# Altium footprint library con-vg.PCBLIB: 112 footprints (part 1 of 7)
Each footprint in its own frame and in the unit in brackets; x right, y up, seen from the top. Pads: shape width x height; smd on the part's side, far side on the other; paste and mask are expansions set on the pad; w line width, h text height; cw(c..) or ccw(c..) is an arc to the next point about the centre after c.
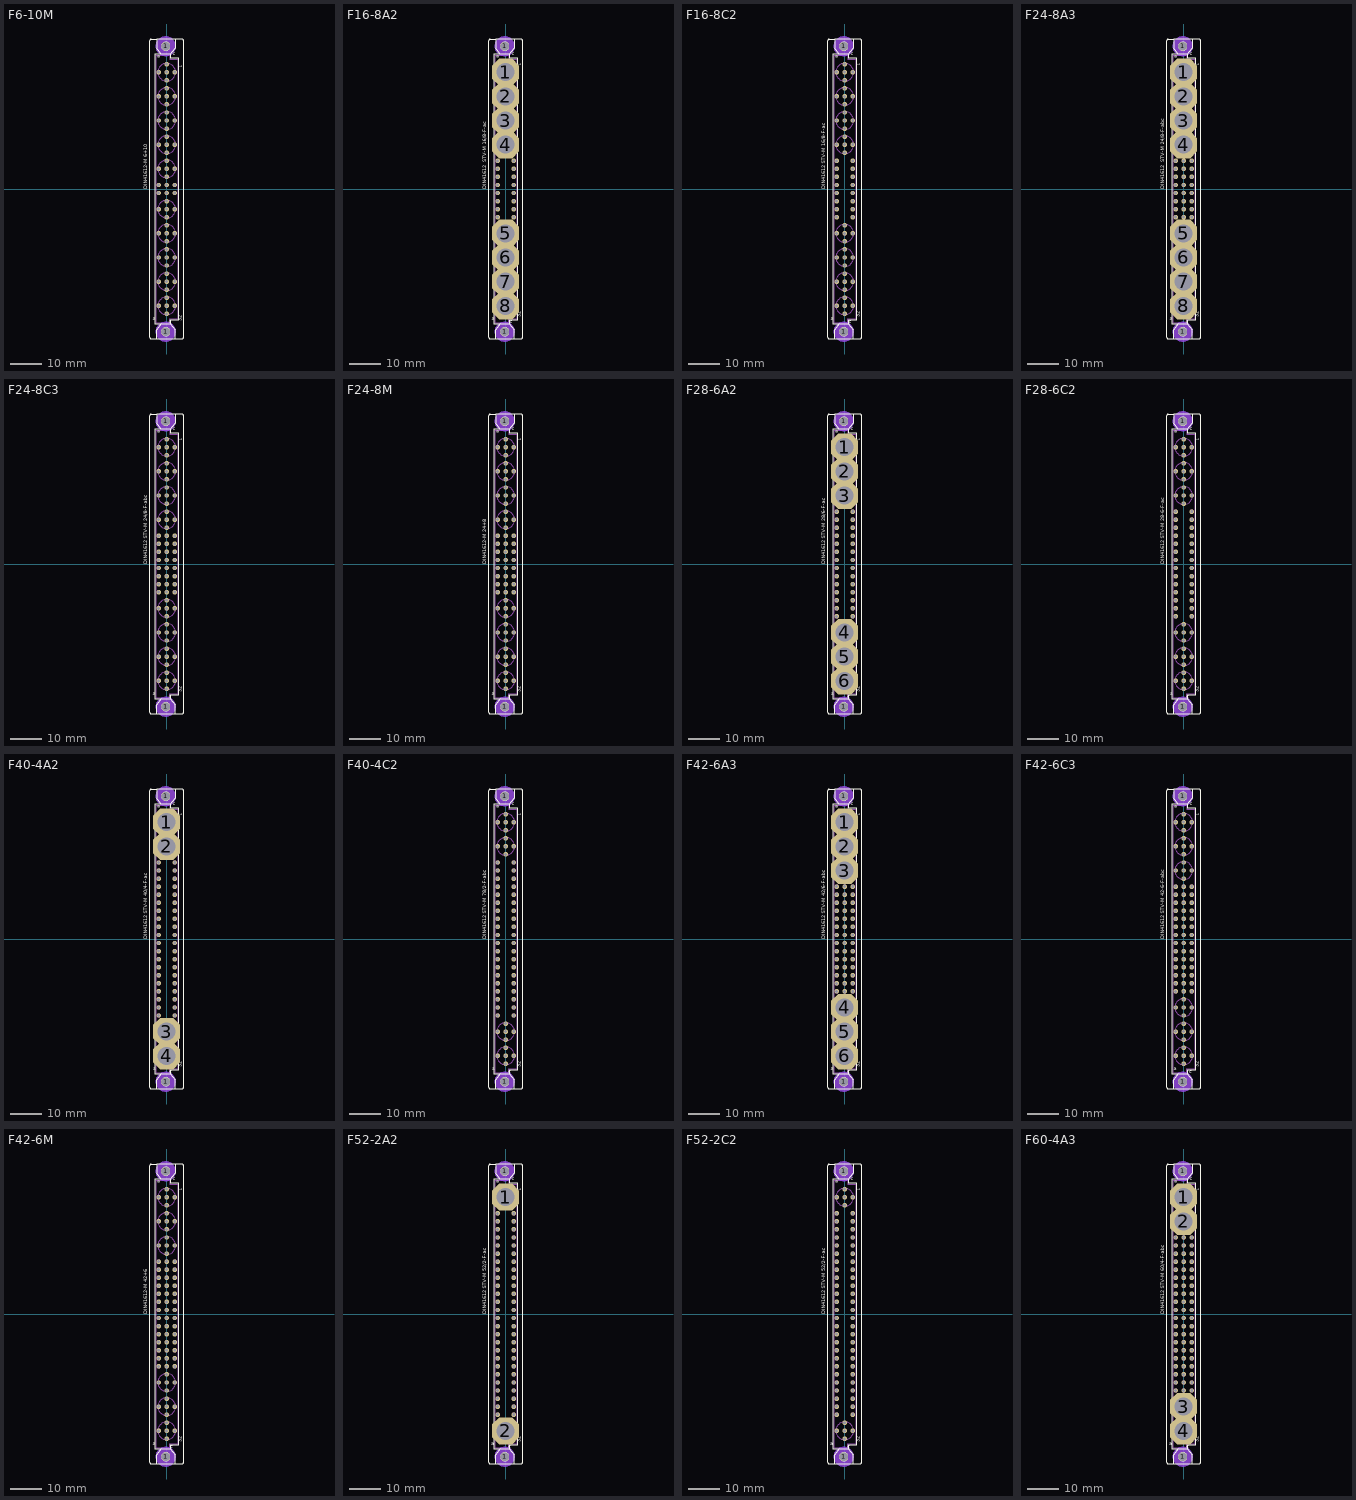
[diagram p0: the footprints below, top view; thin cyan lines are the x and y axes]

## F6-10M [mil]
pads (58):
  round 110 hole 110: 1(-12,-1772) 1(-12,1772)
  oct 54x54 hole 36: A2(-100,1450) A5(-100,1150) A8(-100,850) A11(-100,550) A14(-100,250) A16(-100,50) A17(-100,-50) A19(-100,-250) A22(-100,-550) A25(-100,-850) A28(-100,-1150) A31(-100,-1450) B1(0,1550) B2(0,1450) B3(0,1350) B4(0,1250) B5(0,1150) B6(0,1050) B7(0,950) B8(0,850) B9(0,750) B10(0,650) B11(0,550) B12(0,450) B13(0,350) B14(0,250) B15(0,150) B16(0,50) B17(0,-50) B18(0,-150) B19(0,-250) B20(0,-350) B21(0,-450) B22(0,-550) B23(0,-650) B24(0,-750) B25(0,-850) B26(0,-950) B27(0,-1050) B28(0,-1150) B29(0,-1250) B30(0,-1350) B31(0,-1450) B32(0,-1550) C2(100,1450) C5(100,1150) C8(100,850) C11(100,550) C14(100,250) C16(100,50) C17(100,-50) C19(100,-250) C22(100,-550) C25(100,-850) C28(100,-1150) C31(100,-1450)
Bottom Layer keep-out:
  circle w70: c-12,1772 r90
  circle w70: c-12,-1772 r90
Top Overlay:
  circle w10: c-12,-1772 r50
  circle w10: c-12,1772 r50
  lines w10: -125,-1860 -125,-1750 -65,-1675 ; -125,-1860 105,-1860 ; -125,-1860 -190,-1860 cw(c-190,-1840) -210,-1840 -210,1840 cw(c-190,1840) -190,1860 -125,1860 ; -125,1860 105,1860 ; -125,1860 -125,1750 -65,1675 ; -65,-1675 -150,-1675 -150,1675 -65,1675 ; -65,-1675 45,-1675 ; -65,1675 45,1675 ; 45,-1675 50,-1675 50,-1625 150,-1625 150,1625 50,1625 50,1675 45,1675 ; 45,-1675 105,-1750 105,-1860 ; 45,1675 105,1750 105,1860 ; 105,-1860 190,-1860 ccw(c190,-1840) 210,-1840 210,1840 ccw(c190,1840) 190,1860 105,1860
  text "a" at -120,1610 h77.5
  text "c" at 75,1640 h77.5
  text "DIN41612-M 6+10" at -225,0 h77.5
  text "a" at -170,-1645 h77.5
  text "c" at 25,-1685 h77.5
  text "32" at 205,-1640 h77.5
  text "1" at 200,1505 h62
Mechanical 16:
  circle w10: c0,1450 r110
  circle w10: c0,-1450 r110
  circle w10: c0,1150 r110
  circle w10: c0,-1150 r110
  circle w10: c0,850 r110
  circle w10: c0,-850 r110
  circle w10: c0,550 r110
  circle w10: c0,-550 r110
  circle w10: c0,250 r110
  circle w10: c0,-250 r110
  rectangle: -115,-75 -85,-25
  rectangle: 85,-75 115,-25
  rectangle: -115,25 -85,75
  rectangle: 85,25 115,75
  rectangle: -15,-75 15,-25
  rectangle: -15,-775 15,-725
  rectangle: -15,25 15,75
  lines w2: -135,-1660 -135,1660 35,1660 35,1610 135,1610 135,-1610 35,-1610 35,-1660 -135,-1660
Via Holes:
  circle w70: c-12,1772 r90
  circle w70: c-12,-1772 r90

## F16-8A2 [mil]
pads (26):
  round 110 hole 110: 1(-12,-1772) 1(-12,1772)
  oct 336.62x336.62 hole 224.41: 1(0,1450) 2(0,1150) 3(0,850) 4(0,550) 5(0,-550) 6(0,-850) 7(0,-1150) 8(0,-1450)
  oct 54x54 hole 36: A13(-100,350) A14(-100,250) A15(-100,150) A16(-100,50) A17(-100,-50) A18(-100,-150) A19(-100,-250) A20(-100,-350) C13(100,350) C14(100,250) C15(100,150) C16(100,50) C17(100,-50) C18(100,-150) C19(100,-250) C20(100,-350)
Bottom Layer keep-out:
  circle w70: c-12,1772 r90
  circle w70: c-12,-1772 r90
Top Overlay:
  circle w10: c-12,-1772 r50
  circle w10: c-12,1772 r50
  lines w10: -125,-1860 -125,-1750 -65,-1675 ; -125,-1860 105,-1860 ; -125,-1860 -190,-1860 cw(c-190,-1840) -210,-1840 -210,1840 cw(c-190,1840) -190,1860 -125,1860 ; -125,1860 105,1860 ; -125,1860 -125,1750 -65,1675 ; -65,-1675 -150,-1675 -150,1675 -65,1675 ; -65,-1675 45,-1675 ; -65,1675 45,1675 ; 45,-1675 50,-1675 50,-1625 150,-1625 150,1625 50,1625 50,1675 45,1675 ; 45,-1675 105,-1750 105,-1860 ; 45,1675 105,1750 105,1860 ; 105,-1860 190,-1860 ccw(c190,-1840) 210,-1840 210,1840 ccw(c190,1840) 190,1860 105,1860
  text "32" at 205,-1590 h77.5
  text "a" at -120,1610 h77.5
  text "c" at 75,1640 h77.5
  text "1" at 200,1530 h62
  text "DIN41612  STV-M 16/8-F-ac" at -225,0 h77.5
  text "a" at -170,-1645 h77.5
  text "c" at 50,-1685 h77.5
Mechanical 16:
  circle w10: c0,1450 r110
  circle w10: c0,1150 r110
  circle w10: c0,850 r110
  circle w10: c0,550 r110
  circle w10: c0,-550 r110
  circle w10: c0,-850 r110
  circle w10: c0,-1150 r110
  circle w10: c0,-1450 r110
  rectangle: -115,-275 -85,-225
  rectangle: -115,-75 -85,-25
  rectangle: -115,125 -85,175
  rectangle: -115,325 -85,375
  rectangle: 85,-275 115,-225
  rectangle: 85,-75 115,-25
  rectangle: 85,125 115,175
  rectangle: 85,325 115,375
  rectangle: -115,-375 -85,-325
  rectangle: -115,-175 -85,-125
  rectangle: -115,25 -85,75
  rectangle: -115,225 -85,275
  rectangle: 85,-375 115,-325
  rectangle: 85,-175 115,-125
  rectangle: 85,25 115,75
  rectangle: 85,225 115,275
  lines w2: -135,-1660 -135,1660 35,1660 35,1610 135,1610 135,-1610 35,-1610 35,-1660 -135,-1660
Via Holes:
  circle w70: c-12,1772 r90
  circle w70: c-12,-1772 r90

## F16-8C2 [mil]
pads (58):
  round 110 hole 110: 1(-12,-1772) 1(-12,1772)
  oct 54x54 hole 36: A2(-100,1450) A5(-100,1150) A8(-100,850) A11(-100,550) A13(-100,350) A14(-100,250) A15(-100,150) A16(-100,50) A17(-100,-50) A18(-100,-150) A19(-100,-250) A20(-100,-350) A22(-100,-550) A25(-100,-850) A28(-100,-1150) A31(-100,-1450) B1(0,1550) B2(0,1450) B3(0,1350) B4(0,1250) B5(0,1150) B6(0,1050) B7(0,950) B8(0,850) B9(0,750) B10(0,650) B11(0,550) B12(0,450) B21(0,-450) B22(0,-550) B23(0,-650) B24(0,-750) B25(0,-850) B26(0,-950) B27(0,-1050) B28(0,-1150) B29(0,-1250) B30(0,-1350) B31(0,-1450) B32(0,-1550) C2(100,1450) C5(100,1150) C8(100,850) C11(100,550) C13(100,350) C14(100,250) C15(100,150) C16(100,50) C17(100,-50) C18(100,-150) C19(100,-250) C20(100,-350) C22(100,-550) C25(100,-850) C28(100,-1150) C31(100,-1450)
Bottom Layer keep-out:
  circle w70: c-12,1772 r90
  circle w70: c-12,-1772 r90
Top Overlay:
  circle w10: c-12,-1772 r50
  circle w10: c-12,1772 r50
  lines w10: -125,-1860 -125,-1750 -65,-1675 ; -125,-1860 105,-1860 ; -125,-1860 -190,-1860 cw(c-190,-1840) -210,-1840 -210,1840 cw(c-190,1840) -190,1860 -125,1860 ; -125,1860 105,1860 ; -125,1860 -125,1750 -65,1675 ; -65,-1675 -150,-1675 -150,1675 -65,1675 ; -65,-1675 45,-1675 ; -65,1675 45,1675 ; 45,-1675 50,-1675 50,-1625 150,-1625 150,1625 50,1625 50,1675 45,1675 ; 45,-1675 105,-1750 105,-1860 ; 45,1675 105,1750 105,1860 ; 105,-1860 190,-1860 ccw(c190,-1840) 210,-1840 210,1840 ccw(c190,1840) 190,1860 105,1860
  text "32" at 205,-1590 h77.5
  text "a" at -120,1610 h77.5
  text "c" at 75,1640 h77.5
  text "1" at 200,1530 h62
  text "DIN41612 STV-M 16/8-F-ac" at -225,0 h77.5
  text "a" at -170,-1645 h77.5
  text "c" at 50,-1685 h77.5
Mechanical 16:
  circle w10: c0,1450 r110
  circle w10: c0,-1450 r110
  circle w10: c0,1150 r110
  circle w10: c0,-1150 r110
  circle w10: c0,850 r110
  circle w10: c0,-850 r110
  circle w10: c0,550 r110
  circle w10: c0,-550 r110
  rectangle: -115,-275 -85,-225
  rectangle: -115,-75 -85,-25
  rectangle: -115,125 -85,175
  rectangle: -115,325 -85,375
  rectangle: 85,-275 115,-225
  rectangle: 85,-75 115,-25
  rectangle: 85,125 115,175
  rectangle: 85,325 115,375
  rectangle: -115,-375 -85,-325
  rectangle: -115,-175 -85,-125
  rectangle: -115,25 -85,75
  rectangle: -115,225 -85,275
  rectangle: 85,-375 115,-325
  rectangle: 85,-175 115,-125
  rectangle: 85,25 115,75
  rectangle: 85,225 115,275
  rectangle: -15,-575 15,-525
  lines w2: -135,-1660 -135,1660 35,1660 35,1610 135,1610 135,-1610 35,-1610 35,-1660 -135,-1660
Via Holes:
  circle w70: c-12,1772 r90
  circle w70: c-12,-1772 r90

## F24-8A3 [mil]
pads (34):
  round 110 hole 110: 1(-12,-1772) 1(-12,1772)
  oct 336.62x336.62 hole 224.41: 1(0,1450) 2(0,1150) 3(0,850) 4(0,550) 5(0,-550) 6(0,-850) 7(0,-1150) 8(0,-1450)
  oct 54x54 hole 36: A13(-100,350) A14(-100,250) A15(-100,150) A16(-100,50) A17(-100,-50) A18(-100,-150) A19(-100,-250) A20(-100,-350) B13(0,350) B14(0,250) B15(0,150) B16(0,50) B17(0,-50) B18(0,-150) B19(0,-250) B20(0,-350) C13(100,350) C14(100,250) C15(100,150) C16(100,50) C17(100,-50) C18(100,-150) C19(100,-250) C20(100,-350)
Bottom Layer keep-out:
  circle w70: c-12,1772 r90
  circle w70: c-12,-1772 r90
Top Overlay:
  circle w10: c-12,-1772 r50
  circle w10: c-12,1772 r50
  lines w10: -125,-1860 -125,-1750 -65,-1675 ; -125,-1860 105,-1860 ; -125,-1860 -190,-1860 cw(c-190,-1840) -210,-1840 -210,1840 cw(c-190,1840) -190,1860 -125,1860 ; -125,1860 105,1860 ; -125,1860 -125,1750 -65,1675 ; -65,-1675 -150,-1675 -150,1675 -65,1675 ; -65,-1675 45,-1675 ; -65,1675 45,1675 ; 45,-1675 50,-1675 50,-1625 150,-1625 150,1625 50,1625 50,1675 45,1675 ; 45,-1675 105,-1750 105,-1860 ; 45,1675 105,1750 105,1860 ; 105,-1860 190,-1860 ccw(c190,-1840) 210,-1840 210,1840 ccw(c190,1840) 190,1860 105,1860
  text "32" at 205,-1590 h77.5
  text "a" at -120,1610 h77.5
  text "c" at 75,1640 h77.5
  text "1" at 200,1530 h62
  text "DIN41612  STV-M 24/8-F-abc" at -225,0 h77.5
  text "a" at -170,-1645 h77.5
  text "c" at 25,-1685 h77.5
Mechanical 16:
  circle w10: c0,1450 r110
  circle w10: c0,1150 r110
  circle w10: c0,850 r110
  circle w10: c0,550 r110
  circle w10: c0,-550 r110
  circle w10: c0,-850 r110
  circle w10: c0,-1150 r110
  circle w10: c0,-1450 r110
  rectangle: -115,-275 -85,-225
  rectangle: -115,-75 -85,-25
  rectangle: -115,125 -85,175
  rectangle: -115,325 -85,375
  rectangle: 85,-275 115,-225
  rectangle: 85,-75 115,-25
  rectangle: 85,125 115,175
  rectangle: 85,325 115,375
  rectangle: -115,-375 -85,-325
  rectangle: -115,-175 -85,-125
  rectangle: -115,25 -85,75
  rectangle: -115,225 -85,275
  rectangle: 85,-375 115,-325
  rectangle: 85,-175 115,-125
  rectangle: 85,25 115,75
  rectangle: 85,225 115,275
  rectangle: -15,-275 15,-225
  rectangle: -15,-75 15,-25
  rectangle: -15,125 15,175
  rectangle: -15,325 15,375
  rectangle: -15,-375 15,-325
  rectangle: -15,-175 15,-125
  rectangle: -15,25 15,75
  rectangle: -15,225 15,275
  lines w2: -135,-1660 -135,1660 35,1660 35,1610 135,1610 135,-1610 35,-1610 35,-1660 -135,-1660
Via Holes:
  circle w70: c-12,1772 r90
  circle w70: c-12,-1772 r90

## F24-8C3 [mil]
pads (66):
  round 110 hole 110: 1(-12,-1772) 1(-12,1772)
  oct 54x54 hole 36: A2(-100,1450) A5(-100,1150) A8(-100,850) A11(-100,550) A13(-100,350) A14(-100,250) A15(-100,150) A16(-100,50) A17(-100,-50) A18(-100,-150) A19(-100,-250) A20(-100,-350) A22(-100,-550) A25(-100,-850) A28(-100,-1150) A31(-100,-1450) B1(0,1550) B2(0,1450) B3(0,1350) B4(0,1250) B5(0,1150) B6(0,1050) B7(0,950) B8(0,850) B9(0,750) B10(0,650) B11(0,550) B12(0,450) B13(0,350) B14(0,250) B15(0,150) B16(0,50) B17(0,-50) B18(0,-150) B19(0,-250) B20(0,-350) B21(0,-450) B22(0,-550) B23(0,-650) B24(0,-750) B25(0,-850) B26(0,-950) B27(0,-1050) B28(0,-1150) B29(0,-1250) B30(0,-1350) B31(0,-1450) B32(0,-1550) C2(100,1450) C5(100,1150) C8(100,850) C11(100,550) C13(100,350) C14(100,250) C15(100,150) C16(100,50) C17(100,-50) C18(100,-150) C19(100,-250) C20(100,-350) C22(100,-550) C25(100,-850) C28(100,-1150) C31(100,-1450)
Bottom Layer keep-out:
  circle w70: c-12,1772 r90
  circle w70: c-12,-1772 r90
Top Overlay:
  circle w10: c-12,-1772 r50
  circle w10: c-12,1772 r50
  lines w10: -125,-1860 -125,-1750 -65,-1675 ; -125,-1860 105,-1860 ; -125,-1860 -190,-1860 cw(c-190,-1840) -210,-1840 -210,1840 cw(c-190,1840) -190,1860 -125,1860 ; -125,1860 105,1860 ; -125,1860 -125,1750 -65,1675 ; -65,-1675 -150,-1675 -150,1675 -65,1675 ; -65,-1675 45,-1675 ; -65,1675 45,1675 ; 45,-1675 50,-1675 50,-1625 150,-1625 150,1625 50,1625 50,1675 45,1675 ; 45,-1675 105,-1750 105,-1860 ; 45,1675 105,1750 105,1860 ; 105,-1860 190,-1860 ccw(c190,-1840) 210,-1840 210,1840 ccw(c190,1840) 190,1860 105,1860
  text "32" at 205,-1590 h77.5
  text "a" at -120,1610 h77.5
  text "c" at 75,1640 h77.5
  text "1" at 200,1530 h62
  text "DIN41612 STV-M 24/8-F-abc" at -225,0 h77.5
  text "a" at -170,-1645 h77.5
  text "c" at 25,-1685 h77.5
Mechanical 16:
  circle w10: c0,1450 r110
  circle w10: c0,-1450 r110
  circle w10: c0,1150 r110
  circle w10: c0,-1150 r110
  circle w10: c0,850 r110
  circle w10: c0,-850 r110
  circle w10: c0,550 r110
  circle w10: c0,-550 r110
  rectangle: -115,-275 -85,-225
  rectangle: -115,-75 -85,-25
  rectangle: -115,125 -85,175
  rectangle: -115,325 -85,375
  rectangle: 85,-275 115,-225
  rectangle: 85,-75 115,-25
  rectangle: 85,125 115,175
  rectangle: 85,325 115,375
  rectangle: -115,-375 -85,-325
  rectangle: -115,-175 -85,-125
  rectangle: -115,25 -85,75
  rectangle: -115,225 -85,275
  rectangle: 85,-375 115,-325
  rectangle: 85,-175 115,-125
  rectangle: 85,25 115,75
  rectangle: 85,225 115,275
  rectangle: -15,-275 15,-225
  rectangle: -15,-75 15,-25
  rectangle: -15,125 15,175
  rectangle: -15,325 15,375
  rectangle: -15,-575 15,-525
  rectangle: -15,-375 15,-325
  rectangle: -15,-175 15,-125
  rectangle: -15,25 15,75
  rectangle: -15,225 15,275
  lines w2: -135,-1660 -135,1660 35,1660 35,1610 135,1610 135,-1610 35,-1610 35,-1660 -135,-1660
Via Holes:
  circle w70: c-12,1772 r90
  circle w70: c-12,-1772 r90

## F24-8M [mil]
pads (66):
  round 110 hole 110: 1(-12,-1772) 1(-12,1772)
  oct 54x54 hole 36: A2(-100,1450) A5(-100,1150) A8(-100,850) A11(-100,550) A13(-100,350) A14(-100,250) A15(-100,150) A16(-100,50) A17(-100,-50) A18(-100,-150) A19(-100,-250) A20(-100,-350) A22(-100,-550) A25(-100,-850) A28(-100,-1150) A31(-100,-1450) B1(0,1550) B2(0,1450) B3(0,1350) B4(0,1250) B5(0,1150) B6(0,1050) B7(0,950) B8(0,850) B9(0,750) B10(0,650) B11(0,550) B12(0,450) B13(0,350) B14(0,250) B15(0,150) B16(0,50) B17(0,-50) B18(0,-150) B19(0,-250) B20(0,-350) B21(0,-450) B22(0,-550) B23(0,-650) B24(0,-750) B25(0,-850) B26(0,-950) B27(0,-1050) B28(0,-1150) B29(0,-1250) B30(0,-1350) B31(0,-1450) B32(0,-1550) C2(100,1450) C5(100,1150) C8(100,850) C11(100,550) C13(100,350) C14(100,250) C15(100,150) C16(100,50) C17(100,-50) C18(100,-150) C19(100,-250) C20(100,-350) C22(100,-550) C25(100,-850) C28(100,-1150) C31(100,-1450)
Bottom Layer keep-out:
  circle w70: c-12,1772 r90
  circle w70: c-12,-1772 r90
Top Overlay:
  circle w10: c-12,-1772 r50
  circle w10: c-12,1772 r50
  lines w10: -125,-1860 -125,-1750 -65,-1675 ; -125,-1860 105,-1860 ; -125,-1860 -190,-1860 cw(c-190,-1840) -210,-1840 -210,1840 cw(c-190,1840) -190,1860 -125,1860 ; -125,1860 105,1860 ; -125,1860 -125,1750 -65,1675 ; -65,-1675 -150,-1675 -150,1675 -65,1675 ; -65,-1675 45,-1675 ; -65,1675 45,1675 ; 45,-1675 50,-1675 50,-1625 150,-1625 150,1625 50,1625 50,1675 45,1675 ; 45,-1675 105,-1750 105,-1860 ; 45,1675 105,1750 105,1860 ; 105,-1860 190,-1860 ccw(c190,-1840) 210,-1840 210,1840 ccw(c190,1840) 190,1860 105,1860
  text "32" at 205,-1590 h77.5
  text "a" at -120,1610 h77.5
  text "c" at 75,1640 h77.5
  text "1" at 200,1530 h62
  text "DIN41612-M 24+8" at -225,0 h77.5
  text "a" at -170,-1645 h77.5
  text "c" at 25,-1685 h77.5
Mechanical 16:
  circle w10: c0,1450 r110
  circle w10: c0,-1450 r110
  circle w10: c0,1150 r110
  circle w10: c0,-1150 r110
  circle w10: c0,850 r110
  circle w10: c0,-850 r110
  circle w10: c0,550 r110
  circle w10: c0,-550 r110
  rectangle: -115,-275 -85,-225
  rectangle: -115,-75 -85,-25
  rectangle: -115,125 -85,175
  rectangle: -115,325 -85,375
  rectangle: 85,-275 115,-225
  rectangle: 85,-75 115,-25
  rectangle: 85,125 115,175
  rectangle: 85,325 115,375
  rectangle: -115,-375 -85,-325
  rectangle: -115,-175 -85,-125
  rectangle: -115,25 -85,75
  rectangle: -115,225 -85,275
  rectangle: 85,-375 115,-325
  rectangle: 85,-175 115,-125
  rectangle: 85,25 115,75
  rectangle: 85,225 115,275
  rectangle: -15,-275 15,-225
  rectangle: -15,-75 15,-25
  rectangle: -15,125 15,175
  rectangle: -15,325 15,375
  rectangle: -15,-575 15,-525
  rectangle: -15,-375 15,-325
  rectangle: -15,-175 15,-125
  rectangle: -15,25 15,75
  rectangle: -15,225 15,275
  lines w2: -135,-1660 -135,1660 35,1660 35,1610 135,1610 135,-1610 35,-1610 35,-1660 -135,-1660
Via Holes:
  circle w70: c-12,1772 r90
  circle w70: c-12,-1772 r90

## F28-6A2 [mil]
pads (36):
  round 110 hole 110: 1(-12,-1772) 1(-12,1772)
  oct 336.62x336.62 hole 224.41: 1(0,1450) 2(0,1150) 3(0,850) 4(0,-850) 5(0,-1150) 6(0,-1450)
  oct 54x54 hole 36: A10(-100,650) A11(-100,550) A12(-100,450) A13(-100,350) A14(-100,250) A15(-100,150) A16(-100,50) A17(-100,-50) A18(-100,-150) A19(-100,-250) A20(-100,-350) A21(-100,-450) A22(-100,-550) A23(-100,-650) C10(100,650) C11(100,550) C12(100,450) C13(100,350) C14(100,250) C15(100,150) C16(100,50) C17(100,-50) C18(100,-150) C19(100,-250) C20(100,-350) C21(100,-450) C22(100,-550) C23(100,-650)
Bottom Layer keep-out:
  circle w70: c-12,1772 r90
  circle w70: c-12,-1772 r90
Top Overlay:
  circle w10: c-12,-1772 r50
  circle w10: c-12,1772 r50
  lines w10: -125,-1860 -125,-1750 -65,-1675 ; -125,-1860 105,-1860 ; -125,-1860 -190,-1860 cw(c-190,-1840) -210,-1840 -210,1840 cw(c-190,1840) -190,1860 -125,1860 ; -125,1860 105,1860 ; -125,1860 -125,1750 -65,1675 ; -65,-1675 -150,-1675 -150,1675 -65,1675 ; -65,-1675 45,-1675 ; -65,1675 45,1675 ; 45,-1675 50,-1675 50,-1625 150,-1625 150,1625 50,1625 50,1675 45,1675 ; 45,-1675 105,-1750 105,-1860 ; 45,1675 105,1750 105,1860 ; 105,-1860 190,-1860 ccw(c190,-1840) 210,-1840 210,1840 ccw(c190,1840) 190,1860 105,1860
  text "32" at 205,-1590 h77.5
  text "a" at -164.37,-1645 h77.5
  text "c" at 34.57,-1685 h77.5
  text "a" at -120,1610 h77.5
  text "c" at 75,1640 h77.5
  text "1" at 200,1530 h62
  text "DIN41612 STV-M 28/6-F-ac" at -225,0 h77.5
Mechanical 16:
  circle w10: c0,1450 r110
  circle w10: c0,1150 r110
  circle w10: c0,850 r110
  circle w10: c0,-850 r110
  circle w10: c0,-1150 r110
  circle w10: c0,-1450 r110
  rectangle: 85,525 115,575
  rectangle: -115,525 -85,575
  rectangle: 85,425 115,475
  rectangle: 85,625 115,675
  rectangle: -115,425 -85,475
  rectangle: -115,625 -85,675
  rectangle: 85,-675 115,-625
  rectangle: 85,-475 115,-425
  rectangle: -115,-675 -85,-625
  rectangle: -115,-475 -85,-425
  rectangle: -115,-275 -85,-225
  rectangle: -115,-75 -85,-25
  rectangle: -115,125 -85,175
  rectangle: -115,325 -85,375
  rectangle: 85,-275 115,-225
  rectangle: 85,-75 115,-25
  rectangle: 85,125 115,175
  rectangle: 85,325 115,375
  rectangle: 85,-575 115,-525
  rectangle: -115,-575 -85,-525
  rectangle: -115,-375 -85,-325
  rectangle: -115,-175 -85,-125
  rectangle: -115,25 -85,75
  rectangle: -115,225 -85,275
  rectangle: 85,-375 115,-325
  rectangle: 85,-175 115,-125
  rectangle: 85,25 115,75
  rectangle: 85,225 115,275
  lines w2: -135,-1660 -135,1660 35,1660 35,1610 135,1610 135,-1610 35,-1610 35,-1660 -135,-1660
Via Holes:
  circle w70: c-12,1772 r90
  circle w70: c-12,-1772 r90

## F28-6C2 [mil]
pads (60):
  round 110 hole 110: 1(-12,-1772) 1(-12,1772)
  oct 54x54 hole 36: A2(-100,1450) A5(-100,1150) A8(-100,850) A10(-100,650) A11(-100,550) A12(-100,450) A13(-100,350) A14(-100,250) A15(-100,150) A16(-100,50) A17(-100,-50) A18(-100,-150) A19(-100,-250) A20(-100,-350) A21(-100,-450) A22(-100,-550) A23(-100,-650) A25(-100,-850) A28(-100,-1150) A31(-100,-1450) B1(0,1550) B2(0,1450) B3(0,1350) B4(0,1250) B5(0,1150) B6(0,1050) B7(0,950) B8(0,850) B9(0,750) B24(0,-750) B25(0,-850) B26(0,-950) B27(0,-1050) B28(0,-1150) B29(0,-1250) B30(0,-1350) B31(0,-1450) B32(0,-1550) C2(100,1450) C5(100,1150) C8(100,850) C10(100,650) C11(100,550) C12(100,450) C13(100,350) C14(100,250) C15(100,150) C16(100,50) C17(100,-50) C18(100,-150) C19(100,-250) C20(100,-350) C21(100,-450) C22(100,-550) C23(100,-650) C25(100,-850) C28(100,-1150) C31(100,-1450)
Bottom Layer keep-out:
  circle w70: c-12,1772 r90
  circle w70: c-12,-1772 r90
Top Overlay:
  circle w10: c-12,-1772 r50
  circle w10: c-12,1772 r50
  lines w10: -125,-1860 -125,-1750 -65,-1675 ; -125,-1860 105,-1860 ; -125,-1860 -190,-1860 cw(c-190,-1840) -210,-1840 -210,1840 cw(c-190,1840) -190,1860 -125,1860 ; -125,1860 105,1860 ; -125,1860 -125,1750 -65,1675 ; -65,-1675 -150,-1675 -150,1675 -65,1675 ; -65,-1675 45,-1675 ; -65,1675 45,1675 ; 45,-1675 50,-1675 50,-1625 150,-1625 150,1625 50,1625 50,1675 45,1675 ; 45,-1675 105,-1750 105,-1860 ; 45,1675 105,1750 105,1860 ; 105,-1860 190,-1860 ccw(c190,-1840) 210,-1840 210,1840 ccw(c190,1840) 190,1860 105,1860
  text "32" at 205,-1590 h77.5
  text "a" at -168.31,-1645 h77.5
  text "c" at 34.57,-1685 h77.5
  text "a" at -120,1610 h77.5
  text "c" at 75,1640 h77.5
  text "1" at 200,1530 h62
  text "DIN41612 STV-M 28-6-F-ac" at -225,0 h77.5
Mechanical 16:
  circle w10: c0,1450 r110
  circle w10: c0,-1450 r110
  circle w10: c0,1150 r110
  circle w10: c0,-1150 r110
  circle w10: c0,850 r110
  circle w10: c0,-850 r110
  rectangle: 85,525 115,575
  rectangle: -115,525 -85,575
  rectangle: 85,425 115,475
  rectangle: 85,625 115,675
  rectangle: -115,425 -85,475
  rectangle: -115,625 -85,675
  rectangle: 85,-675 115,-625
  rectangle: 85,-475 115,-425
  rectangle: -115,-675 -85,-625
  rectangle: -115,-475 -85,-425
  rectangle: -115,-275 -85,-225
  rectangle: -115,-75 -85,-25
  rectangle: -115,125 -85,175
  rectangle: -115,325 -85,375
  rectangle: 85,-275 115,-225
  rectangle: 85,-75 115,-25
  rectangle: 85,125 115,175
  rectangle: 85,325 115,375
  rectangle: 85,-575 115,-525
  rectangle: -115,-575 -85,-525
  rectangle: -115,-375 -85,-325
  rectangle: -115,-175 -85,-125
  rectangle: -115,25 -85,75
  rectangle: -115,225 -85,275
  rectangle: 85,-375 115,-325
  rectangle: 85,-175 115,-125
  rectangle: 85,25 115,75
  rectangle: 85,225 115,275
  lines w2: -135,-1660 -135,1660 35,1660 35,1610 135,1610 135,-1610 35,-1610 35,-1660 -135,-1660
Via Holes:
  circle w70: c-12,1772 r90
  circle w70: c-12,-1772 r90

## F40-4A2 [mil]
pads (46):
  round 110 hole 110: 1(-12,-1772) 1(-12,1772)
  oct 336.62x336.62 hole 224.41: 1(0,1450) 2(0,1150) 3(0,-1150) 4(0,-1450)
  oct 54x54 hole 36: A7(-100,950) A8(-100,850) A9(-100,750) A10(-100,650) A11(-100,550) A12(-100,450) A13(-100,350) A14(-100,250) A15(-100,150) A16(-100,50) A17(-100,-50) A18(-100,-150) A19(-100,-250) A20(-100,-350) A21(-100,-450) A22(-100,-550) A23(-100,-650) A24(-100,-750) A25(-100,-850) A26(-100,-950) C7(100,950) C8(100,850) C9(100,750) C10(100,650) C11(100,550) C12(100,450) C13(100,350) C14(100,250) C15(100,150) C16(100,50) C17(100,-50) C18(100,-150) C19(100,-250) C20(100,-350) C21(100,-450) C22(100,-550) C23(100,-650) C24(100,-750) C25(100,-850) C26(100,-950)
Bottom Layer keep-out:
  circle w70: c-12,1772 r90
  circle w70: c-12,-1772 r90
Top Overlay:
  circle w10: c-12,-1772 r50
  circle w10: c-12,1772 r50
  lines w10: -125,-1860 -125,-1750 -65,-1675 ; -125,-1860 105,-1860 ; -125,-1860 -190,-1860 cw(c-190,-1840) -210,-1840 -210,1840 cw(c-190,1840) -190,1860 -125,1860 ; -125,1860 105,1860 ; -125,1860 -125,1750 -65,1675 ; -65,-1675 -150,-1675 -150,1675 -65,1675 ; -65,-1675 45,-1675 ; -65,1675 45,1675 ; 45,-1675 50,-1675 50,-1625 150,-1625 150,1625 50,1625 50,1675 45,1675 ; 45,-1675 105,-1750 105,-1860 ; 45,1675 105,1750 105,1860 ; 105,-1860 190,-1860 ccw(c190,-1840) 210,-1840 210,1840 ccw(c190,1840) 190,1860 105,1860
  text "32" at 205,-1590 h77.5
  text "a" at -168.31,-1645 h77.5
  text "c" at 30.63,-1685 h77.5
  text "a" at -120,1610 h77.5
  text "c" at 75,1640 h77.5
  text "1" at 200,1530 h62
  text "DIN41612 STV-M 40/4-F-ac" at -225,0 h77.5
Mechanical 16:
  circle w10: c0,1450 r110
  circle w10: c0,1150 r110
  circle w10: c0,-1150 r110
  circle w10: c0,-1450 r110
  rectangle: 85,525 115,575
  rectangle: 85,725 115,775
  rectangle: -115,525 -85,575
  rectangle: -115,725 -85,775
  rectangle: -115,925 -85,975
  rectangle: 85,925 115,975
  rectangle: 85,425 115,475
  rectangle: 85,625 115,675
  rectangle: -115,425 -85,475
  rectangle: -115,625 -85,675
  rectangle: -115,825 -85,875
  rectangle: 85,825 115,875
  rectangle: 85,-675 115,-625
  rectangle: 85,-475 115,-425
  rectangle: -115,-675 -85,-625
  rectangle: -115,-475 -85,-425
  rectangle: -115,-275 -85,-225
  rectangle: -115,-75 -85,-25
  rectangle: -115,125 -85,175
  rectangle: -115,325 -85,375
  rectangle: 85,-275 115,-225
  rectangle: 85,-75 115,-25
  rectangle: 85,125 115,175
  rectangle: 85,325 115,375
  rectangle: 85,-775 115,-725
  rectangle: 85,-575 115,-525
  rectangle: -115,-775 -85,-725
  rectangle: -115,-575 -85,-525
  rectangle: -115,-375 -85,-325
  rectangle: -115,-175 -85,-125
  rectangle: -115,25 -85,75
  rectangle: -115,225 -85,275
  rectangle: 85,-375 115,-325
  rectangle: 85,-175 115,-125
  rectangle: 85,25 115,75
  rectangle: 85,225 115,275
  rectangle: -115,-875 -85,-825
  rectangle: 85,-875 115,-825
  rectangle: -115,-975 -85,-925
  rectangle: 85,-975 115,-925
  lines w2: -135,-1660 -135,1660 35,1660 35,1610 135,1610 135,-1610 35,-1610 35,-1660 -135,-1660
Via Holes:
  circle w70: c-12,1772 r90
  circle w70: c-12,-1772 r90

## F40-4C2 [mil]
pads (62):
  round 110 hole 110: 1(-12,-1772) 1(-12,1772)
  oct 54x54 hole 36: A2(-100,1450) A5(-100,1150) A7(-100,950) A8(-100,850) A9(-100,750) A10(-100,650) A11(-100,550) A12(-100,450) A13(-100,350) A14(-100,250) A15(-100,150) A16(-100,50) A17(-100,-50) A18(-100,-150) A19(-100,-250) A20(-100,-350) A21(-100,-450) A22(-100,-550) A23(-100,-650) A24(-100,-750) A25(-100,-850) A26(-100,-950) A28(-100,-1150) A31(-100,-1450) B1(0,1550) B2(0,1450) B3(0,1350) B4(0,1250) B5(0,1150) B6(0,1050) B27(0,-1050) B28(0,-1150) B29(0,-1250) B30(0,-1350) B31(0,-1450) B32(0,-1550) C2(100,1450) C5(100,1150) C7(100,950) C8(100,850) C9(100,750) C10(100,650) C11(100,550) C12(100,450) C13(100,350) C14(100,250) C15(100,150) C16(100,50) C17(100,-50) C18(100,-150) C19(100,-250) C20(100,-350) C21(100,-450) C22(100,-550) C23(100,-650) C24(100,-750) C25(100,-850) C26(100,-950) C28(100,-1150) C31(100,-1450)
Bottom Layer keep-out:
  circle w70: c-12,1772 r90
  circle w70: c-12,-1772 r90
Top Overlay:
  circle w10: c-12,-1772 r50
  circle w10: c-12,1772 r50
  lines w10: -125,-1860 -125,-1750 -65,-1675 ; -125,-1860 105,-1860 ; -125,-1860 -190,-1860 cw(c-190,-1840) -210,-1840 -210,1840 cw(c-190,1840) -190,1860 -125,1860 ; -125,1860 105,1860 ; -125,1860 -125,1750 -65,1675 ; -65,-1675 -150,-1675 -150,1675 -65,1675 ; -65,-1675 45,-1675 ; -65,1675 45,1675 ; 45,-1675 50,-1675 50,-1625 150,-1625 150,1625 50,1625 50,1675 45,1675 ; 45,-1675 105,-1750 105,-1860 ; 45,1675 105,1750 105,1860 ; 105,-1860 190,-1860 ccw(c190,-1840) 210,-1840 210,1840 ccw(c190,1840) 190,1860 105,1860
  text "32" at 205,-1590 h77.5
  text "a" at -168.31,-1645 h77.5
  text "c" at 30.63,-1685 h77.5
  text "a" at -120,1610 h77.5
  text "c" at 75,1640 h77.5
  text "1" at 200,1530 h62
  text "DIN41612 STV-M 78/2-F-abc" at -225,0 h77.5
Mechanical 16:
  circle w10: c0,1450 r110
  circle w10: c0,-1450 r110
  circle w10: c0,1150 r110
  circle w10: c0,-1150 r110
  rectangle: 85,525 115,575
  rectangle: 85,725 115,775
  rectangle: -115,525 -85,575
  rectangle: -115,725 -85,775
  rectangle: -115,925 -85,975
  rectangle: 85,925 115,975
  rectangle: 85,425 115,475
  rectangle: 85,625 115,675
  rectangle: -115,425 -85,475
  rectangle: -115,625 -85,675
  rectangle: -115,825 -85,875
  rectangle: 85,825 115,875
  rectangle: 85,-675 115,-625
  rectangle: 85,-475 115,-425
  rectangle: -115,-675 -85,-625
  rectangle: -115,-475 -85,-425
  rectangle: -115,-275 -85,-225
  rectangle: -115,-75 -85,-25
  rectangle: -115,125 -85,175
  rectangle: -115,325 -85,375
  rectangle: 85,-275 115,-225
  rectangle: 85,-75 115,-25
  rectangle: 85,125 115,175
  rectangle: 85,325 115,375
  rectangle: 85,-775 115,-725
  rectangle: 85,-575 115,-525
  rectangle: -115,-775 -85,-725
  rectangle: -115,-575 -85,-525
  rectangle: -115,-375 -85,-325
  rectangle: -115,-175 -85,-125
  rectangle: -115,25 -85,75
  rectangle: -115,225 -85,275
  rectangle: 85,-375 115,-325
  rectangle: 85,-175 115,-125
  rectangle: 85,25 115,75
  rectangle: 85,225 115,275
  rectangle: -115,-875 -85,-825
  rectangle: 85,-875 115,-825
  rectangle: -115,-975 -85,-925
  rectangle: 85,-975 115,-925
  lines w2: -135,-1660 -135,1660 35,1660 35,1610 135,1610 135,-1610 35,-1610 35,-1660 -135,-1660
Via Holes:
  circle w70: c-12,1772 r90
  circle w70: c-12,-1772 r90

## F42-6A3 [mil]
pads (50):
  round 110 hole 110: 1(-12,-1772) 1(-12,1772)
  oct 336.62x336.62 hole 224.41: 1(0,1450) 2(0,1150) 3(0,850) 4(0,-850) 5(0,-1150) 6(0,-1450)
  oct 54x54 hole 36: A10(-100,650) A11(-100,550) A12(-100,450) A13(-100,350) A14(-100,250) A15(-100,150) A16(-100,50) A17(-100,-50) A18(-100,-150) A19(-100,-250) A20(-100,-350) A21(-100,-450) A22(-100,-550) A23(-100,-650) B10(0,650) B11(0,550) B12(0,450) B13(0,350) B14(0,250) B15(0,150) B16(0,50) B17(0,-50) B18(0,-150) B19(0,-250) B20(0,-350) B21(0,-450) B22(0,-550) B23(0,-650) C10(100,650) C11(100,550) C12(100,450) C13(100,350) C14(100,250) C15(100,150) C16(100,50) C17(100,-50) C18(100,-150) C19(100,-250) C20(100,-350) C21(100,-450) C22(100,-550) C23(100,-650)
Bottom Layer keep-out:
  circle w70: c-12,1772 r90
  circle w70: c-12,-1772 r90
Top Overlay:
  circle w10: c-12,-1772 r50
  circle w10: c-12,1772 r50
  lines w10: -125,-1860 -125,-1750 -65,-1675 ; -125,-1860 105,-1860 ; -125,-1860 -190,-1860 cw(c-190,-1840) -210,-1840 -210,1840 cw(c-190,1840) -190,1860 -125,1860 ; -125,1860 105,1860 ; -125,1860 -125,1750 -65,1675 ; -65,-1675 -150,-1675 -150,1675 -65,1675 ; -65,-1675 45,-1675 ; -65,1675 45,1675 ; 45,-1675 50,-1675 50,-1625 150,-1625 150,1625 50,1625 50,1675 45,1675 ; 45,-1675 105,-1750 105,-1860 ; 45,1675 105,1750 105,1860 ; 105,-1860 190,-1860 ccw(c190,-1840) 210,-1840 210,1840 ccw(c190,1840) 190,1860 105,1860
  text "32" at 205,-1590 h77.5
  text "a" at -172.24,-1648.94 h77.5
  text "c" at 30.63,-1685 h77.5
  text "a" at -120,1610 h77.5
  text "c" at 75,1640 h77.5
  text "1" at 200,1530 h62
  text "DIN41612 STV-M 42/6-F-abc" at -225,0 h77.5
Mechanical 16:
  circle w10: c0,1450 r110
  circle w10: c0,1150 r110
  circle w10: c0,850 r110
  circle w10: c0,-850 r110
  circle w10: c0,-1150 r110
  circle w10: c0,-1450 r110
  rectangle: 85,525 115,575
  rectangle: -115,525 -85,575
  rectangle: 85,425 115,475
  rectangle: 85,625 115,675
  rectangle: -115,425 -85,475
  rectangle: -115,625 -85,675
  rectangle: 85,-675 115,-625
  rectangle: 85,-475 115,-425
  rectangle: -115,-675 -85,-625
  rectangle: -115,-475 -85,-425
  rectangle: -115,-275 -85,-225
  rectangle: -115,-75 -85,-25
  rectangle: -115,125 -85,175
  rectangle: -115,325 -85,375
  rectangle: 85,-275 115,-225
  rectangle: 85,-75 115,-25
  rectangle: 85,125 115,175
  rectangle: 85,325 115,375
  rectangle: 85,-575 115,-525
  rectangle: -115,-575 -85,-525
  rectangle: -115,-375 -85,-325
  rectangle: -115,-175 -85,-125
  rectangle: -115,25 -85,75
  rectangle: -115,225 -85,275
  rectangle: 85,-375 115,-325
  rectangle: 85,-175 115,-125
  rectangle: 85,25 115,75
  rectangle: 85,225 115,275
  rectangle: -15,525 15,575
  rectangle: -15,425 15,475
  rectangle: -15,625 15,675
  rectangle: -15,-675 15,-625
  rectangle: -15,-475 15,-425
  rectangle: -15,-275 15,-225
  rectangle: -15,-75 15,-25
  rectangle: -15,125 15,175
  rectangle: -15,325 15,375
  rectangle: -15,-575 15,-525
  rectangle: -15,-375 15,-325
  rectangle: -15,-175 15,-125
  rectangle: -15,25 15,75
  rectangle: -15,225 15,275
  lines w2: -135,-1660 -135,1660 35,1660 35,1610 135,1610 135,-1610 35,-1610 35,-1660 -135,-1660
Via Holes:
  circle w70: c-12,1772 r90
  circle w70: c-12,-1772 r90

## F42-6C3 [mil]
pads (74):
  round 110 hole 110: 1(-12,-1772) 1(-12,1772)
  oct 54x54 hole 36: A2(-100,1450) A5(-100,1150) A8(-100,850) A10(-100,650) A11(-100,550) A12(-100,450) A13(-100,350) A14(-100,250) A15(-100,150) A16(-100,50) A17(-100,-50) A18(-100,-150) A19(-100,-250) A20(-100,-350) A21(-100,-450) A22(-100,-550) A23(-100,-650) A25(-100,-850) A28(-100,-1150) A31(-100,-1450) B1(0,1550) B2(0,1450) B3(0,1350) B4(0,1250) B5(0,1150) B6(0,1050) B7(0,950) B8(0,850) B9(0,750) B10(0,650) B11(0,550) B12(0,450) B13(0,350) B14(0,250) B15(0,150) B16(0,50) B17(0,-50) B18(0,-150) B19(0,-250) B20(0,-350) B21(0,-450) B22(0,-550) B23(0,-650) B24(0,-750) B25(0,-850) B26(0,-950) B27(0,-1050) B28(0,-1150) B29(0,-1250) B30(0,-1350) B31(0,-1450) B32(0,-1550) C2(100,1450) C5(100,1150) C8(100,850) C10(100,650) C11(100,550) C12(100,450) C13(100,350) C14(100,250) C15(100,150) C16(100,50) C17(100,-50) C18(100,-150) C19(100,-250) C20(100,-350) C21(100,-450) C22(100,-550) C23(100,-650) C25(100,-850) C28(100,-1150) C31(100,-1450)
Bottom Layer keep-out:
  circle w70: c-12,1772 r90
  circle w70: c-12,-1772 r90
Top Overlay:
  circle w10: c-12,-1772 r50
  circle w10: c-12,1772 r50
  lines w10: -125,-1860 -125,-1750 -65,-1675 ; -125,-1860 105,-1860 ; -125,-1860 -190,-1860 cw(c-190,-1840) -210,-1840 -210,1840 cw(c-190,1840) -190,1860 -125,1860 ; -125,1860 105,1860 ; -125,1860 -125,1750 -65,1675 ; -65,-1675 -150,-1675 -150,1675 -65,1675 ; -65,-1675 45,-1675 ; -65,1675 45,1675 ; 45,-1675 50,-1675 50,-1625 150,-1625 150,1625 50,1625 50,1675 45,1675 ; 45,-1675 105,-1750 105,-1860 ; 45,1675 105,1750 105,1860 ; 105,-1860 190,-1860 ccw(c190,-1840) 210,-1840 210,1840 ccw(c190,1840) 190,1860 105,1860
  text "32" at 205,-1590 h77.5
  text "a" at -125,-1645 h77.5
  text "c" at 70,-1685 h77.5
  text "a" at -120,1610 h77.5
  text "c" at 75,1640 h77.5
  text "1" at 200,1530 h62
  text "DIN41612 STV-M 42-6-F-abc" at -225,0 h77.5
Mechanical 16:
  circle w10: c0,1450 r110
  circle w10: c0,-1450 r110
  circle w10: c0,1150 r110
  circle w10: c0,-1150 r110
  circle w10: c0,850 r110
  circle w10: c0,-850 r110
  rectangle: 85,525 115,575
  rectangle: -115,525 -85,575
  rectangle: 85,425 115,475
  rectangle: 85,625 115,675
  rectangle: -115,425 -85,475
  rectangle: -115,625 -85,675
  rectangle: 85,-675 115,-625
  rectangle: 85,-475 115,-425
  rectangle: -115,-675 -85,-625
  rectangle: -115,-475 -85,-425
  rectangle: -115,-275 -85,-225
  rectangle: -115,-75 -85,-25
  rectangle: -115,125 -85,175
  rectangle: -115,325 -85,375
  rectangle: 85,-275 115,-225
  rectangle: 85,-75 115,-25
  rectangle: 85,125 115,175
  rectangle: 85,325 115,375
  rectangle: 85,-575 115,-525
  rectangle: -115,-575 -85,-525
  rectangle: -115,-375 -85,-325
  rectangle: -115,-175 -85,-125
  rectangle: -115,25 -85,75
  rectangle: -115,225 -85,275
  rectangle: 85,-375 115,-325
  rectangle: 85,-175 115,-125
  rectangle: 85,25 115,75
  rectangle: 85,225 115,275
  rectangle: -15,525 15,575
  rectangle: -15,425 15,475
  rectangle: -15,625 15,675
  rectangle: -15,-675 15,-625
  rectangle: -15,-475 15,-425
  rectangle: -15,-275 15,-225
  rectangle: -15,-75 15,-25
  rectangle: -15,125 15,175
  rectangle: -15,325 15,375
  rectangle: -15,-575 15,-525
  rectangle: -15,-375 15,-325
  rectangle: -15,-175 15,-125
  rectangle: -15,25 15,75
  rectangle: -15,225 15,275
  lines w2: -135,-1660 -135,1660 35,1660 35,1610 135,1610 135,-1610 35,-1610 35,-1660 -135,-1660
Via Holes:
  circle w70: c-12,1772 r90
  circle w70: c-12,-1772 r90

## F42-6M [mil]
pads (74):
  round 110 hole 110: 1(-12,-1772) 1(-12,1772)
  oct 54x54 hole 36: A2(-100,1450) A5(-100,1150) A8(-100,850) A10(-100,650) A11(-100,550) A12(-100,450) A13(-100,350) A14(-100,250) A15(-100,150) A16(-100,50) A17(-100,-50) A18(-100,-150) A19(-100,-250) A20(-100,-350) A21(-100,-450) A22(-100,-550) A23(-100,-650) A25(-100,-850) A28(-100,-1150) A31(-100,-1450) B1(0,1550) B2(0,1450) B3(0,1350) B4(0,1250) B5(0,1150) B6(0,1050) B7(0,950) B8(0,850) B9(0,750) B10(0,650) B11(0,550) B12(0,450) B13(0,350) B14(0,250) B15(0,150) B16(0,50) B17(0,-50) B18(0,-150) B19(0,-250) B20(0,-350) B21(0,-450) B22(0,-550) B23(0,-650) B24(0,-750) B25(0,-850) B26(0,-950) B27(0,-1050) B28(0,-1150) B29(0,-1250) B30(0,-1350) B31(0,-1450) B32(0,-1550) C2(100,1450) C5(100,1150) C8(100,850) C10(100,650) C11(100,550) C12(100,450) C13(100,350) C14(100,250) C15(100,150) C16(100,50) C17(100,-50) C18(100,-150) C19(100,-250) C20(100,-350) C21(100,-450) C22(100,-550) C23(100,-650) C25(100,-850) C28(100,-1150) C31(100,-1450)
Bottom Layer keep-out:
  circle w70: c-12,1772 r90
  circle w70: c-12,-1772 r90
Top Overlay:
  circle w10: c-12,-1772 r50
  circle w10: c-12,1772 r50
  lines w10: -125,-1860 -125,-1750 -65,-1675 ; -125,-1860 105,-1860 ; -125,-1860 -190,-1860 cw(c-190,-1840) -210,-1840 -210,1840 cw(c-190,1840) -190,1860 -125,1860 ; -125,1860 105,1860 ; -125,1860 -125,1750 -65,1675 ; -65,-1675 -150,-1675 -150,1675 -65,1675 ; -65,-1675 45,-1675 ; -65,1675 45,1675 ; 45,-1675 50,-1675 50,-1625 150,-1625 150,1625 50,1625 50,1675 45,1675 ; 45,-1675 105,-1750 105,-1860 ; 45,1675 105,1750 105,1860 ; 105,-1860 190,-1860 ccw(c190,-1840) 210,-1840 210,1840 ccw(c190,1840) 190,1860 105,1860
  text "32" at 205,-1590 h77.5
  text "a" at -175,-1645 h77.5
  text "c" at 45,-1685 h77.5
  text "a" at -120,1610 h77.5
  text "c" at 75,1640 h77.5
  text "1" at 200,1530 h62
  text "DIN41612-M 42+6" at -225,0 h77.5
Mechanical 16:
  circle w10: c0,1450 r110
  circle w10: c0,-1450 r110
  circle w10: c0,1150 r110
  circle w10: c0,-1150 r110
  circle w10: c0,850 r110
  circle w10: c0,-850 r110
  rectangle: 85,525 115,575
  rectangle: -115,525 -85,575
  rectangle: 85,425 115,475
  rectangle: 85,625 115,675
  rectangle: -115,425 -85,475
  rectangle: -115,625 -85,675
  rectangle: 85,-675 115,-625
  rectangle: 85,-475 115,-425
  rectangle: -115,-675 -85,-625
  rectangle: -115,-475 -85,-425
  rectangle: -115,-275 -85,-225
  rectangle: -115,-75 -85,-25
  rectangle: -115,125 -85,175
  rectangle: -115,325 -85,375
  rectangle: 85,-275 115,-225
  rectangle: 85,-75 115,-25
  rectangle: 85,125 115,175
  rectangle: 85,325 115,375
  rectangle: 85,-575 115,-525
  rectangle: -115,-575 -85,-525
  rectangle: -115,-375 -85,-325
  rectangle: -115,-175 -85,-125
  rectangle: -115,25 -85,75
  rectangle: -115,225 -85,275
  rectangle: 85,-375 115,-325
  rectangle: 85,-175 115,-125
  rectangle: 85,25 115,75
  rectangle: 85,225 115,275
  rectangle: -15,525 15,575
  rectangle: -15,425 15,475
  rectangle: -15,625 15,675
  rectangle: -15,-675 15,-625
  rectangle: -15,-475 15,-425
  rectangle: -15,-275 15,-225
  rectangle: -15,-75 15,-25
  rectangle: -15,125 15,175
  rectangle: -15,325 15,375
  rectangle: -15,-575 15,-525
  rectangle: -15,-375 15,-325
  rectangle: -15,-175 15,-125
  rectangle: -15,25 15,75
  rectangle: -15,225 15,275
  lines w2: -135,-1660 -135,1660 35,1660 35,1610 135,1610 135,-1610 35,-1610 35,-1660 -135,-1660
Via Holes:
  circle w70: c-12,1772 r90
  circle w70: c-12,-1772 r90

## F52-2A2 [mil]
pads (56):
  round 110 hole 110: 1(-12,-1772) 1(-12,1772)
  oct 336.62x336.62 hole 224.41: 1(0,1450) 2(0,-1450)
  oct 54x54 hole 36: A4(-100,1250) A5(-100,1150) A6(-100,1050) A7(-100,950) A8(-100,850) A9(-100,750) A10(-100,650) A11(-100,550) A12(-100,450) A13(-100,350) A14(-100,250) A15(-100,150) A16(-100,50) A17(-100,-50) A18(-100,-150) A19(-100,-250) A20(-100,-350) A21(-100,-450) A22(-100,-550) A23(-100,-650) A24(-100,-750) A25(-100,-850) A26(-100,-950) A27(-100,-1050) A28(-100,-1150) A29(-100,-1250) C4(100,1250) C5(100,1150) C6(100,1050) C7(100,950) C8(100,850) C9(100,750) C10(100,650) C11(100,550) C12(100,450) C13(100,350) C14(100,250) C15(100,150) C16(100,50) C17(100,-50) C18(100,-150) C19(100,-250) C20(100,-350) C21(100,-450) C22(100,-550) C23(100,-650) C24(100,-750) C25(100,-850) C26(100,-950) C27(100,-1050) C28(100,-1150) C29(100,-1250)
Bottom Layer keep-out:
  circle w70: c-12,1772 r90
  circle w70: c-12,-1772 r90
Top Overlay:
  circle w10: c-12,-1772 r50
  circle w10: c-12,1772 r50
  lines w10: -125,-1860 -125,-1750 -65,-1675 ; -125,-1860 105,-1860 ; -125,-1860 -190,-1860 cw(c-190,-1840) -210,-1840 -210,1840 cw(c-190,1840) -190,1860 -125,1860 ; -125,1860 105,1860 ; -125,1860 -125,1750 -65,1675 ; -65,-1675 -150,-1675 -150,1675 -65,1675 ; -65,-1675 45,-1675 ; -65,1675 45,1675 ; 45,-1675 50,-1675 50,-1625 150,-1625 150,1625 50,1625 50,1675 45,1675 ; 45,-1675 105,-1750 105,-1860 ; 45,1675 105,1750 105,1860 ; 105,-1860 190,-1860 ccw(c190,-1840) 210,-1840 210,1840 ccw(c190,1840) 190,1860 105,1860
  text "32" at 205,-1590 h77.5
  text "a" at -176.18,-1645 h77.5
  text "c" at 30.63,-1685 h77.5
  text "a" at -120,1610 h77.5
  text "c" at 75,1640 h77.5
  text "1" at 200,1530 h62
  text "DIN41612 STV-M 52/2-F-ac" at -225,0 h77.5
Mechanical 16:
  circle w10: c0,1450 r110
  circle w10: c0,-1450 r110
  rectangle: 85,525 115,575
  rectangle: 85,725 115,775
  rectangle: -115,525 -85,575
  rectangle: -115,725 -85,775
  rectangle: -115,925 -85,975
  rectangle: -115,1125 -85,1175
  rectangle: 85,925 115,975
  rectangle: 85,1125 115,1175
  rectangle: 85,425 115,475
  rectangle: 85,625 115,675
  rectangle: -115,425 -85,475
  rectangle: -115,625 -85,675
  rectangle: -115,825 -85,875
  rectangle: -115,1025 -85,1075
  rectangle: -115,1225 -85,1275
  rectangle: 85,825 115,875
  rectangle: 85,1025 115,1075
  rectangle: 85,1225 115,1275
  rectangle: 85,-675 115,-625
  rectangle: 85,-475 115,-425
  rectangle: -115,-675 -85,-625
  rectangle: -115,-475 -85,-425
  rectangle: -115,-275 -85,-225
  rectangle: -115,-75 -85,-25
  rectangle: -115,125 -85,175
  rectangle: -115,325 -85,375
  rectangle: 85,-275 115,-225
  rectangle: 85,-75 115,-25
  rectangle: 85,125 115,175
  rectangle: 85,325 115,375
  rectangle: 85,-775 115,-725
  rectangle: 85,-575 115,-525
  rectangle: -115,-775 -85,-725
  rectangle: -115,-575 -85,-525
  rectangle: -115,-375 -85,-325
  rectangle: -115,-175 -85,-125
  rectangle: -115,25 -85,75
  rectangle: -115,225 -85,275
  rectangle: 85,-375 115,-325
  rectangle: 85,-175 115,-125
  rectangle: 85,25 115,75
  rectangle: 85,225 115,275
  rectangle: -115,-1275 -85,-1225
  rectangle: -115,-1075 -85,-1025
  rectangle: -115,-875 -85,-825
  rectangle: 85,-1275 115,-1225
  rectangle: 85,-1075 115,-1025
  rectangle: 85,-875 115,-825
  rectangle: -115,-1175 -85,-1125
  rectangle: -115,-975 -85,-925
  rectangle: 85,-1175 115,-1125
  rectangle: 85,-975 115,-925
  lines w2: -135,-1660 -135,1660 35,1660 35,1610 135,1610 135,-1610 35,-1610 35,-1660 -135,-1660
Via Holes:
  circle w70: c-12,1772 r90
  circle w70: c-12,-1772 r90

## F52-2C2 [mil]
pads (64):
  round 110 hole 110: 1(-12,-1772) 1(-12,1772)
  oct 54x54 hole 36: A2(-100,1450) A4(-100,1250) A5(-100,1150) A6(-100,1050) A7(-100,950) A8(-100,850) A9(-100,750) A10(-100,650) A11(-100,550) A12(-100,450) A13(-100,350) A14(-100,250) A15(-100,150) A16(-100,50) A17(-100,-50) A18(-100,-150) A19(-100,-250) A20(-100,-350) A21(-100,-450) A22(-100,-550) A23(-100,-650) A24(-100,-750) A25(-100,-850) A26(-100,-950) A27(-100,-1050) A28(-100,-1150) A29(-100,-1250) A31(-100,-1450) B1(0,1550) B2(0,1450) B3(0,1350) B30(0,-1350) B31(0,-1450) B32(0,-1550) C2(100,1450) C4(100,1250) C5(100,1150) C6(100,1050) C7(100,950) C8(100,850) C9(100,750) C10(100,650) C11(100,550) C12(100,450) C13(100,350) C14(100,250) C15(100,150) C16(100,50) C17(100,-50) C18(100,-150) C19(100,-250) C20(100,-350) C21(100,-450) C22(100,-550) C23(100,-650) C24(100,-750) C25(100,-850) C26(100,-950) C27(100,-1050) C28(100,-1150) C29(100,-1250) C31(100,-1450)
Bottom Layer keep-out:
  circle w70: c-12,1772 r90
  circle w70: c-12,-1772 r90
Top Overlay:
  circle w10: c-12,-1772 r50
  circle w10: c-12,1772 r50
  lines w10: -125,-1860 -125,-1750 -65,-1675 ; -125,-1860 105,-1860 ; -125,-1860 -190,-1860 cw(c-190,-1840) -210,-1840 -210,1840 cw(c-190,1840) -190,1860 -125,1860 ; -125,1860 105,1860 ; -125,1860 -125,1750 -65,1675 ; -65,-1675 -150,-1675 -150,1675 -65,1675 ; -65,-1675 45,-1675 ; -65,1675 45,1675 ; 45,-1675 50,-1675 50,-1625 150,-1625 150,1625 50,1625 50,1675 45,1675 ; 45,-1675 105,-1750 105,-1860 ; 45,1675 105,1750 105,1860 ; 105,-1860 190,-1860 ccw(c190,-1840) 210,-1840 210,1840 ccw(c190,1840) 190,1860 105,1860
  text "32" at 205,-1590 h77.5
  text "a" at -176.18,-1645 h77.5
  text "c" at 30.63,-1685 h77.5
  text "a" at -120,1610 h77.5
  text "c" at 75,1640 h77.5
  text "1" at 200,1530 h62
  text "DIN41612 STV-M 52/2-F-ac" at -225,0 h77.5
Mechanical 16:
  circle w10: c0,1450 r110
  circle w10: c0,-1450 r110
  rectangle: 85,525 115,575
  rectangle: 85,725 115,775
  rectangle: -115,525 -85,575
  rectangle: -115,725 -85,775
  rectangle: -115,925 -85,975
  rectangle: -115,1125 -85,1175
  rectangle: 85,925 115,975
  rectangle: 85,1125 115,1175
  rectangle: 85,425 115,475
  rectangle: 85,625 115,675
  rectangle: -115,425 -85,475
  rectangle: -115,625 -85,675
  rectangle: -115,825 -85,875
  rectangle: -115,1025 -85,1075
  rectangle: -115,1225 -85,1275
  rectangle: 85,825 115,875
  rectangle: 85,1025 115,1075
  rectangle: 85,1225 115,1275
  rectangle: 85,-675 115,-625
  rectangle: 85,-475 115,-425
  rectangle: -115,-675 -85,-625
  rectangle: -115,-475 -85,-425
  rectangle: -115,-275 -85,-225
  rectangle: -115,-75 -85,-25
  rectangle: -115,125 -85,175
  rectangle: -115,325 -85,375
  rectangle: 85,-275 115,-225
  rectangle: 85,-75 115,-25
  rectangle: 85,125 115,175
  rectangle: 85,325 115,375
  rectangle: 85,-775 115,-725
  rectangle: 85,-575 115,-525
  rectangle: -115,-775 -85,-725
  rectangle: -115,-575 -85,-525
  rectangle: -115,-375 -85,-325
  rectangle: -115,-175 -85,-125
  rectangle: -115,25 -85,75
  rectangle: -115,225 -85,275
  rectangle: 85,-375 115,-325
  rectangle: 85,-175 115,-125
  rectangle: 85,25 115,75
  rectangle: 85,225 115,275
  rectangle: -115,-1275 -85,-1225
  rectangle: -115,-1075 -85,-1025
  rectangle: -115,-875 -85,-825
  rectangle: 85,-1275 115,-1225
  rectangle: 85,-1075 115,-1025
  rectangle: 85,-875 115,-825
  rectangle: -115,-1175 -85,-1125
  rectangle: -115,-975 -85,-925
  rectangle: 85,-1175 115,-1125
  rectangle: 85,-975 115,-925
  lines w2: -135,-1660 -135,1660 35,1660 35,1610 135,1610 135,-1610 35,-1610 35,-1660 -135,-1660
Via Holes:
  circle w70: c-12,1772 r90
  circle w70: c-12,-1772 r90

## F60-4A3 [mil]
pads (66):
  round 110 hole 110: 1(-12,-1772) 1(-12,1772)
  oct 336.62x336.62 hole 224.41: 1(0,1450) 2(0,1150) 3(0,-1150) 4(0,-1450)
  oct 54x54 hole 36: A7(-100,950) A8(-100,850) A9(-100,750) A10(-100,650) A11(-100,550) A12(-100,450) A13(-100,350) A14(-100,250) A15(-100,150) A16(-100,50) A17(-100,-50) A18(-100,-150) A19(-100,-250) A20(-100,-350) A21(-100,-450) A22(-100,-550) A23(-100,-650) A24(-100,-750) A25(-100,-850) A26(-100,-950) B7(0,950) B8(0,850) B9(0,750) B10(0,650) B11(0,550) B12(0,450) B13(0,350) B14(0,250) B15(0,150) B16(0,50) B17(0,-50) B18(0,-150) B19(0,-250) B20(0,-350) B21(0,-450) B22(0,-550) B23(0,-650) B24(0,-750) B25(0,-850) B26(0,-950) C7(100,950) C8(100,850) C9(100,750) C10(100,650) C11(100,550) C12(100,450) C13(100,350) C14(100,250) C15(100,150) C16(100,50) C17(100,-50) C18(100,-150) C19(100,-250) C20(100,-350) C21(100,-450) C22(100,-550) C23(100,-650) C24(100,-750) C25(100,-850) C26(100,-950)
Bottom Layer keep-out:
  circle w70: c-12,1772 r90
  circle w70: c-12,-1772 r90
Top Overlay:
  circle w10: c-12,-1772 r50
  circle w10: c-12,1772 r50
  lines w10: -125,-1860 -125,-1750 -65,-1675 ; -125,-1860 105,-1860 ; -125,-1860 -190,-1860 cw(c-190,-1840) -210,-1840 -210,1840 cw(c-190,1840) -190,1860 -125,1860 ; -125,1860 105,1860 ; -125,1860 -125,1750 -65,1675 ; -65,-1675 -150,-1675 -150,1675 -65,1675 ; -65,-1675 45,-1675 ; -65,1675 45,1675 ; 45,-1675 50,-1675 50,-1625 150,-1625 150,1625 50,1625 50,1675 45,1675 ; 45,-1675 105,-1750 105,-1860 ; 45,1675 105,1750 105,1860 ; 105,-1860 190,-1860 ccw(c190,-1840) 210,-1840 210,1840 ccw(c190,1840) 190,1860 105,1860
  text "32" at 205,-1590 h77.5
  text "a" at -176.18,-1648.94 h77.5
  text "c" at 30.63,-1685 h77.5
  text "a" at -120,1610 h77.5
  text "c" at 75,1640 h77.5
  text "1" at 200,1530 h62
  text "DIN41612 STV-M 60/4-F-abc" at -225,0 h77.5
Mechanical 16:
  circle w10: c0,1450 r110
  circle w10: c0,1150 r110
  circle w10: c0,-1150 r110
  circle w10: c0,-1450 r110
  rectangle: 85,525 115,575
  rectangle: 85,725 115,775
  rectangle: -115,525 -85,575
  rectangle: -115,725 -85,775
  rectangle: -115,925 -85,975
  rectangle: 85,925 115,975
  rectangle: 85,425 115,475
  rectangle: 85,625 115,675
  rectangle: -115,425 -85,475
  rectangle: -115,625 -85,675
  rectangle: -115,825 -85,875
  rectangle: 85,825 115,875
  rectangle: 85,-675 115,-625
  rectangle: 85,-475 115,-425
  rectangle: -115,-675 -85,-625
  rectangle: -115,-475 -85,-425
  rectangle: -115,-275 -85,-225
  rectangle: -115,-75 -85,-25
  rectangle: -115,125 -85,175
  rectangle: -115,325 -85,375
  rectangle: 85,-275 115,-225
  rectangle: 85,-75 115,-25
  rectangle: 85,125 115,175
  rectangle: 85,325 115,375
  rectangle: 85,-775 115,-725
  rectangle: 85,-575 115,-525
  rectangle: -115,-775 -85,-725
  rectangle: -115,-575 -85,-525
  rectangle: -115,-375 -85,-325
  rectangle: -115,-175 -85,-125
  rectangle: -115,25 -85,75
  rectangle: -115,225 -85,275
  rectangle: 85,-375 115,-325
  rectangle: 85,-175 115,-125
  rectangle: 85,25 115,75
  rectangle: 85,225 115,275
  rectangle: -115,-875 -85,-825
  rectangle: 85,-875 115,-825
  rectangle: -115,-975 -85,-925
  rectangle: 85,-975 115,-925
  rectangle: -15,525 15,575
  rectangle: -15,725 15,775
  rectangle: -15,925 15,975
  rectangle: -15,425 15,475
  rectangle: -15,625 15,675
  rectangle: -15,825 15,875
  rectangle: -15,-675 15,-625
  rectangle: -15,-475 15,-425
  rectangle: -15,-275 15,-225
  rectangle: -15,-75 15,-25
  rectangle: -15,125 15,175
  rectangle: -15,325 15,375
  rectangle: -15,-775 15,-725
  rectangle: -15,-575 15,-525
  rectangle: -15,-375 15,-325
  rectangle: -15,-175 15,-125
  rectangle: -15,25 15,75
  rectangle: -15,225 15,275
  rectangle: -15,-875 15,-825
  rectangle: -15,-975 15,-925
  lines w2: -135,-1660 -135,1660 35,1660 35,1610 135,1610 135,-1610 35,-1610 35,-1660 -135,-1660
Via Holes:
  circle w70: c-12,1772 r90
  circle w70: c-12,-1772 r90